# Altium schematic symbol library Schlib_AIC.SchLib: 2 symbols
Pins are listed as number, name and electrical type; pins without a type are passive.

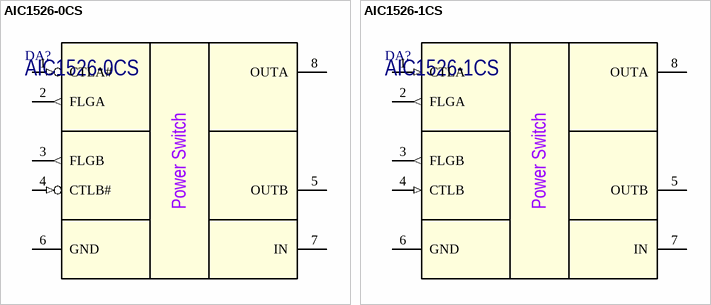
[diagram p0: symbols AIC1526-0CS to AIC1526-1CS]

## AIC1526-0CS
designator DA?
Dual USB High-Side Power Switch Active Low; Manufacturer: AIC Corp.; Package: SOIC-8; Part Number: AIC1526-0CS
footprint SOIC-8 (SOIC-8 package)
pins: 1 CTLA# (in), 2 FLGA (out), 3 FLGB (out), 4 CTLB# (in), 5 OUTB (power), 6 GND (power), 7 IN (power), 8 OUTA (power)
text: Power Switch

## AIC1526-1CS
designator DA?
Dual USB High-Side Power Switch Active High; Manufacturer: AIC Corp.; AltManufacturer: MicroChip; Alternative: MIC2026-1BM; Package: SOIC-8; Part Number: AIC1526-1CS
footprint SOIC-8 (SOIC-8 package)
pins: 1 CTLA (in), 2 FLGA (out), 3 FLGB (out), 4 CTLB (in), 5 OUTB (power), 6 GND (power), 7 IN (power), 8 OUTA (power)
text: Power Switch